# Altium integrated library TI Amplifiers and Linear Special Function Amplifier.IntLib: 708 symbols (part 2 of 47)
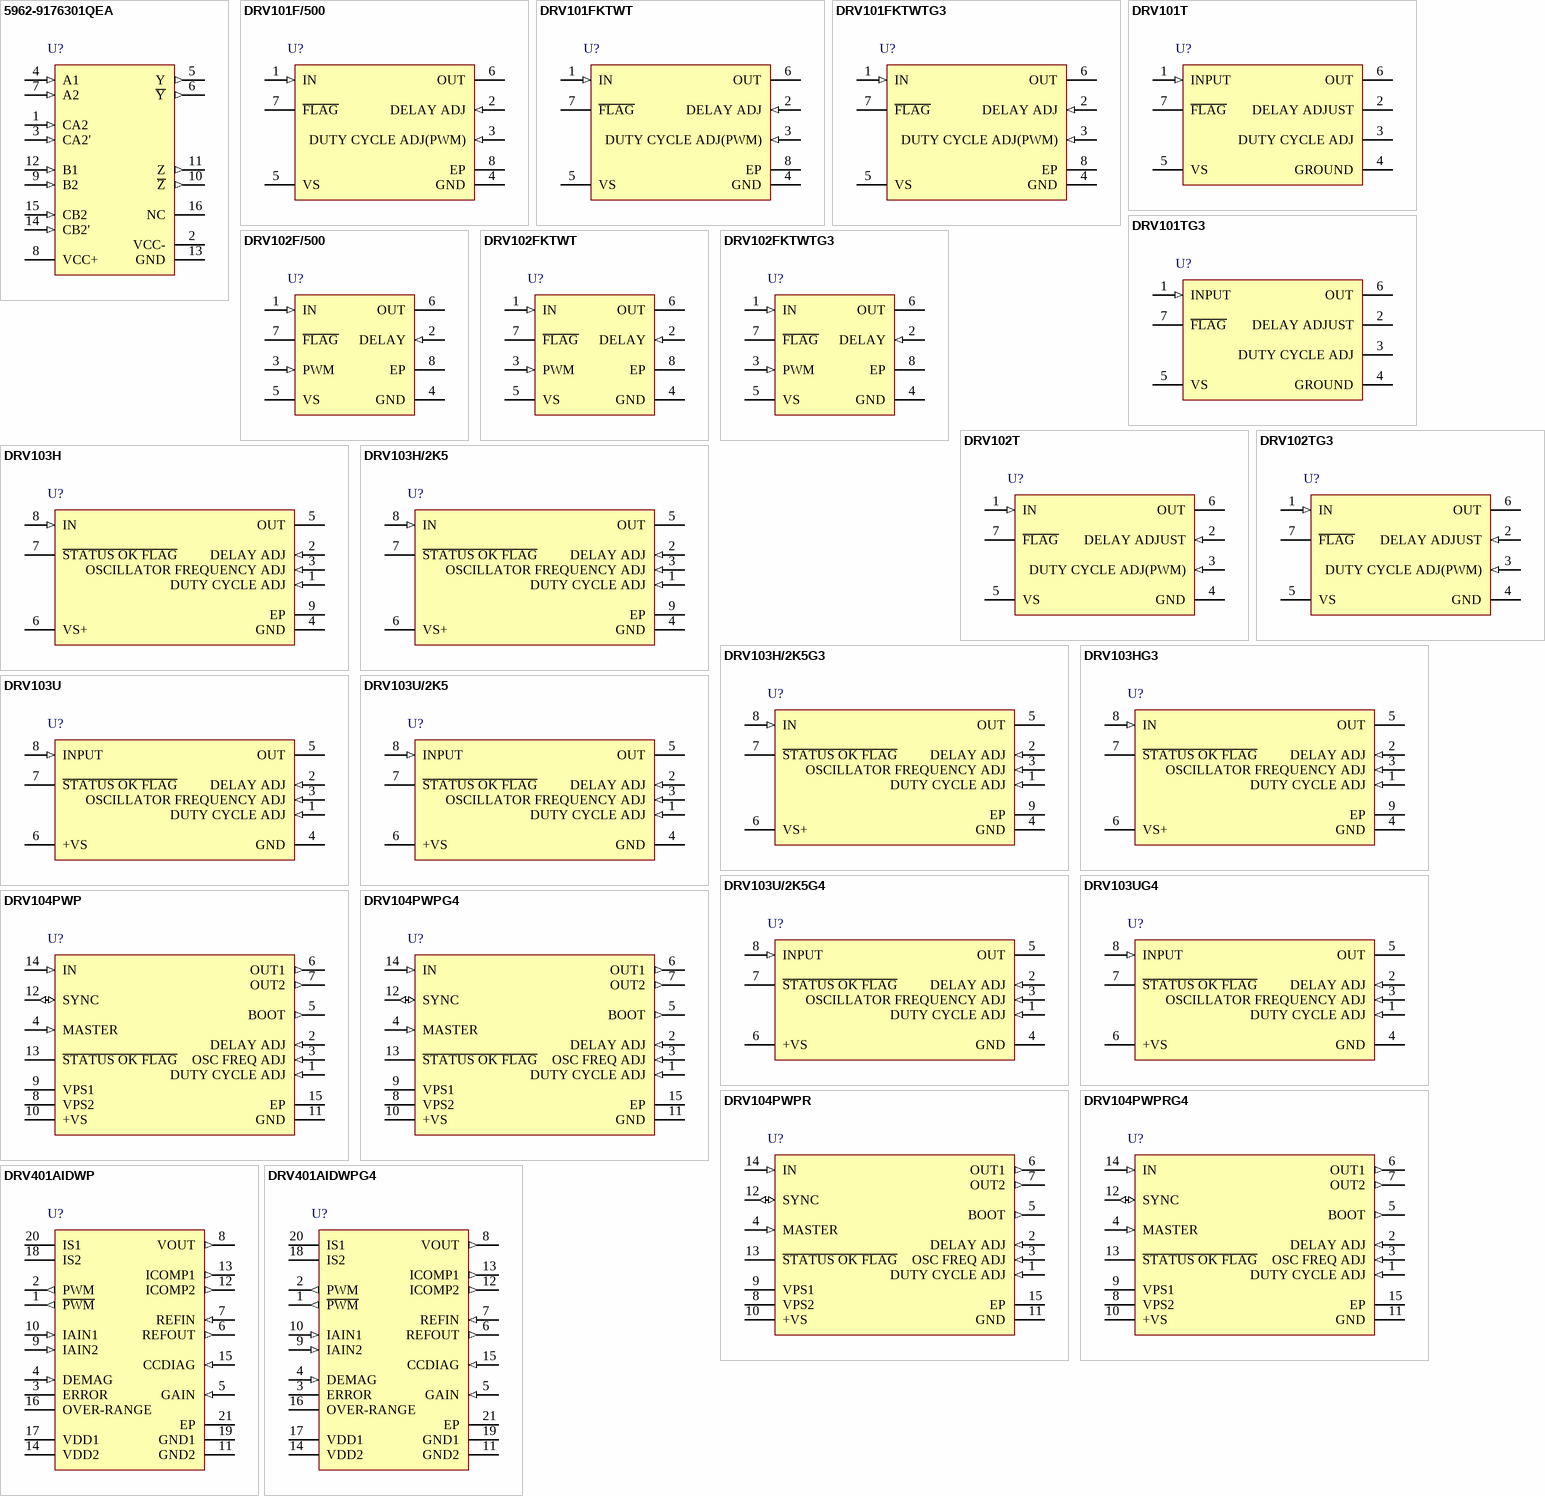
[diagram p40: symbols 5962-9176301QEA to DRV401AIDWPG4]

## DRV103U/2K5
designator U?
PWM Low Side Driver (1.5 A) for Solenoids, Coils, Valves, Heaters, and Lamps, -40 to 85 degC, 8-pin SOIC (D8), Green (RoHS & no Sb/Br); Manufacturer: Texas Instruments; PartNumber: DRV103U/2K5; Iq(mA): 0.4; Iq(Max)(mA): 0.8; Low Side: TRUE; Saturation Voltage(Max)(V): 0.6; Vs(Max)(V): 32; Vs(Min)(V): 8; DatasheetVersion: SBVS029A; PackageVersion: 4040047-3/M, 06/2011; PackageReference: D8; PackageDescription: 8-Pin Plastic Small Outline, Body 4.9 x 3.9 mm, Pitch 1.27 mm; Supplier 1: Digi-Key; Supplier Part Number 1: DRV103U/2K5-ND; Supplier 2: Mouser; Supplier Part Number 2: 595-DRV103U/2K5; Eco-Plan: Green (RoHS & no Sb/Br); Mounting Technology: Surface Mount; Code_JEDEC: MS-012; ComponentLink1Description: Manufacturer URL; ComponentLink1URL: http://www.ti.com/; ComponentLink2Description: Datasheet; ComponentLink2URL: http://www.ti.com/general/docs/lit/getliterature.tsp?genericPartNumber=DRV103&fileType=pdf; ComponentLink3Description: Package Specification; ComponentLink3URL: http://www.ti.com/litv/pdf/msoi002j
footprint TI-D8_N (SOIC, 8-Leads, Body 5x4mm, Pitch 1.27mm, IPC Medium Density)
footprint TI-D8_L (SOIC, 8-Leads, Body 5x4mm, Pitch 1.27mm, IPC High Density)
footprint TI-D8_M (SOIC, 8-Leads, Body 5x4mm, Pitch 1.27mm, IPC Low Density)
pins: 1 DUTY CYCLE ADJ (in) "Internally, this pin connects to the input of a comparator and a (2.75 x IREF) current source from VS. The voltage at this node linearly sets the duty cycle. Duty cycle can be programmed with a resistor, analog voltage, or (See Datasheet)", 2 DELAY ADJ (in) "This pin sets the duration of the initial 100% duty cycle before the output goes into PWM mode. Leaving this pin floating results in a delay of approximately 18us, which is internally limited by parasitic capacitance. (See Datasheet)", 3 OSCILLATOR FREQUENCY ADJ (in) "PWM frequency is adjustable. A resistor to ground sets the current IREF and the internal PWM oscillator frequency. A range of 500Hz to 100kHz can be achieved with practical resistor values. Although oscillator frequency (See Datasheet)", 4 GND (power) "This pin must be connected to system ground for the DRV103 to function. It carries the 0.4mA quiescent current plus the full load current when the power DMOS transistor is switched on.", 5 OUT (oc) "The output is the drain of a power DMOS transistor with its source connected to ground. Its low on-resistance (0.5ohm typ) assures low power dissipation in the DRV103. Gate drive to the power device is controlled to provide (See Datasheet)", 6 +VS (power) "This is the power supply pin. Operating range is +8V to +32V. +VS must be >= the supply voltage to the load.", 7 ~{STATUS OK FLAG} (oc) "Normally HIGH (active LOW), a Flag LOW signals either an over-temperature or over-current fault. The over-current flag (Status OK) is LOW only when the output is ON (constant DC output or the “ON” portion of PWM mode)(See Datasheet)", 8 INPUT (in) "The input is compatible with standard TTL levels. The device output becomes enabled when the input voltage is driven above the typical switching threshold, 1.7V. Below this level, the output is disabled. Input current is (See Datasheet)"

## DRV103U/2K5G4
designator U?
PWM Low Side Driver (1.5 A) for Solenoids, Coils, Valves, Heaters, and Lamps, -40 to 85 degC, 8-pin SOIC (D8), Green (RoHS & no Sb/Br); Manufacturer: Texas Instruments; PartNumber: DRV103U/2K5G4; Iq(mA): 0.4; Iq(Max)(mA): 0.8; Low Side: TRUE; Saturation Voltage(Max)(V): 0.6; Vs(Max)(V): 32; Vs(Min)(V): 8; DatasheetVersion: SBVS029A; PackageVersion: 4040047-3/M, 06/2011; PackageReference: D8; PackageDescription: 8-Pin Plastic Small Outline, Body 4.9 x 3.9 mm, Pitch 1.27 mm; Supplier 1: Digi-Key; Supplier Part Number 1: DRV103U/2K5G4-ND; Supplier 2: Mouser; Supplier Part Number 2: 595-DRV103U/2K5G4; Eco-Plan: Green (RoHS & no Sb/Br); Mounting Technology: Surface Mount; Code_JEDEC: MS-012; ComponentLink1Description: Manufacturer URL; ComponentLink1URL: http://www.ti.com/; ComponentLink2Description: Datasheet; ComponentLink2URL: http://www.ti.com/general/docs/lit/getliterature.tsp?genericPartNumber=DRV103&fileType=pdf; ComponentLink3Description: Package Specification; ComponentLink3URL: http://www.ti.com/litv/pdf/msoi002j
footprint TI-D8_N (SOIC, 8-Leads, Body 5x4mm, Pitch 1.27mm, IPC Medium Density)
footprint TI-D8_L (SOIC, 8-Leads, Body 5x4mm, Pitch 1.27mm, IPC High Density)
footprint TI-D8_M (SOIC, 8-Leads, Body 5x4mm, Pitch 1.27mm, IPC Low Density)
pins: 1 DUTY CYCLE ADJ (in) "Internally, this pin connects to the input of a comparator and a (2.75 x IREF) current source from VS. The voltage at this node linearly sets the duty cycle. Duty cycle can be programmed with a resistor, analog voltage, or (See Datasheet)", 2 DELAY ADJ (in) "This pin sets the duration of the initial 100% duty cycle before the output goes into PWM mode. Leaving this pin floating results in a delay of approximately 18us, which is internally limited by parasitic capacitance. (See Datasheet)", 3 OSCILLATOR FREQUENCY ADJ (in) "PWM frequency is adjustable. A resistor to ground sets the current IREF and the internal PWM oscillator frequency. A range of 500Hz to 100kHz can be achieved with practical resistor values. Although oscillator frequency (See Datasheet)", 4 GND (power) "This pin must be connected to system ground for the DRV103 to function. It carries the 0.4mA quiescent current plus the full load current when the power DMOS transistor is switched on.", 5 OUT (oc) "The output is the drain of a power DMOS transistor with its source connected to ground. Its low on-resistance (0.5ohm typ) assures low power dissipation in the DRV103. Gate drive to the power device is controlled to provide (See Datasheet)", 6 +VS (power) "This is the power supply pin. Operating range is +8V to +32V. +VS must be >= the supply voltage to the load.", 7 ~{STATUS OK FLAG} (oc) "Normally HIGH (active LOW), a Flag LOW signals either an over-temperature or over-current fault. The over-current flag (Status OK) is LOW only when the output is ON (constant DC output or the “ON” portion of PWM mode)(See Datasheet)", 8 INPUT (in) "The input is compatible with standard TTL levels. The device output becomes enabled when the input voltage is driven above the typical switching threshold, 1.7V. Below this level, the output is disabled. Input current is (See Datasheet)"

## DRV103UG4
designator U?
PWM Low Side Driver (1.5 A) for Solenoids, Coils, Valves, Heaters, and Lamps, -40 to 85 degC, 8-pin SOIC (D8), Green (RoHS & no Sb/Br); Manufacturer: Texas Instruments; PartNumber: DRV103UG4; Iq(mA): 0.4; Iq(Max)(mA): 0.8; Low Side: TRUE; Saturation Voltage(Max)(V): 0.6; Vs(Max)(V): 32; Vs(Min)(V): 8; DatasheetVersion: SBVS029A; PackageVersion: 4040047-3/M, 06/2011; PackageReference: D8; PackageDescription: 8-Pin Plastic Small Outline, Body 4.9 x 3.9 mm, Pitch 1.27 mm; Supplier 1: Digi-Key; Supplier Part Number 1: DRV103UG4-ND; Supplier 2: Farnell; Supplier Part Number 2: 1206892; Supplier 3: Newark; Supplier Part Number 3: 96K8702; Supplier 4: Mouser; Supplier Part Number 4: 595-DRV103UG4; Eco-Plan: Green (RoHS & no Sb/Br); Mounting Technology: Surface Mount; Code_JEDEC: MS-012; ComponentLink1Description: Manufacturer URL; ComponentLink1URL: http://www.ti.com/; ComponentLink2Description: Datasheet; ComponentLink2URL: http://www.ti.com/general/docs/lit/getliterature.tsp?genericPartNumber=DRV103&fileType=pdf; ComponentLink3Description: Package Specification; ComponentLink3URL: http://www.ti.com/litv/pdf/msoi002j
footprint TI-D8_N (SOIC, 8-Leads, Body 5x4mm, Pitch 1.27mm, IPC Medium Density)
footprint TI-D8_L (SOIC, 8-Leads, Body 5x4mm, Pitch 1.27mm, IPC High Density)
footprint TI-D8_M (SOIC, 8-Leads, Body 5x4mm, Pitch 1.27mm, IPC Low Density)
pins: 1 DUTY CYCLE ADJ (in) "Internally, this pin connects to the input of a comparator and a (2.75 x IREF) current source from VS. The voltage at this node linearly sets the duty cycle. Duty cycle can be programmed with a resistor, analog voltage, or (See Datasheet)", 2 DELAY ADJ (in) "This pin sets the duration of the initial 100% duty cycle before the output goes into PWM mode. Leaving this pin floating results in a delay of approximately 18us, which is internally limited by parasitic capacitance. (See Datasheet)", 3 OSCILLATOR FREQUENCY ADJ (in) "PWM frequency is adjustable. A resistor to ground sets the current IREF and the internal PWM oscillator frequency. A range of 500Hz to 100kHz can be achieved with practical resistor values. Although oscillator frequency (See Datasheet)", 4 GND (power) "This pin must be connected to system ground for the DRV103 to function. It carries the 0.4mA quiescent current plus the full load current when the power DMOS transistor is switched on.", 5 OUT (oc) "The output is the drain of a power DMOS transistor with its source connected to ground. Its low on-resistance (0.5ohm typ) assures low power dissipation in the DRV103. Gate drive to the power device is controlled to provide (See Datasheet)", 6 +VS (power) "This is the power supply pin. Operating range is +8V to +32V. +VS must be >= the supply voltage to the load.", 7 ~{STATUS OK FLAG} (oc) "Normally HIGH (active LOW), a Flag LOW signals either an over-temperature or over-current fault. The over-current flag (Status OK) is LOW only when the output is ON (constant DC output or the “ON” portion of PWM mode)(See Datasheet)", 8 INPUT (in) "The input is compatible with standard TTL levels. The device output becomes enabled when the input voltage is driven above the typical switching threshold, 1.7V. Below this level, the output is disabled. Input current is (See Datasheet)"

## DRV104PWP
designator U?
PWM High-Side Driver (1.2 A) for Solenoids, Coils, Valves, Heaters, and Lamps, -40 to 85 degC, 14-pin SOP (PWP14), Green (RoHS & no Sb/Br); Manufacturer: Texas Instruments; PartNumber: DRV104PWP; Iq(Max)(mA): 1; Output Current(Min)(A): 1.2; Saturation Voltage(Max)(V): 0.65; Vs(Max)(V): 32; Vs(Min)(V): 8; DatasheetVersion: SBVS036B; PackageVersion: 4073225-2/I, 05/2011; PackageReference: PWP14-1830X2055TP; PackageDescription: 14-Pin Plastic Small Outline, Body 4.4 x 5 mm, Pitch 0.65 mm; Supplier 1: Digi-Key; Supplier Part Number 1: 296-26053-5-ND; Supplier 2: Newark; Supplier Part Number 2: 01J0534; Supplier 3: Mouser; Supplier Part Number 3: 595-DRV104PWP; Eco-Plan: Green (RoHS & no Sb/Br); Mounting Technology: Surface Mount; Code_JEDEC: MO-153; ComponentLink1Description: Manufacturer URL; ComponentLink1URL: http://www.ti.com/; ComponentLink2Description: Datasheet; ComponentLink2URL: http://www.ti.com/general/docs/lit/getliterature.tsp?genericPartNumber=DRV104&fileType=pdf; ComponentLink3Description: Package Specification; ComponentLink3URL: http://www.ti.com/litv/pdf/mpds373
footprint TI-PWP14-1830X2055TP_N (SOP, 14-Leads, Body 5.1x4.5mm, Pitch 0.65mm, Thermal Pad 2.46x2.31mm, IPC Medium Density)
footprint TI-PWP14-1830X2055TP_L (SOP, 14-Leads, Body 5.1x4.5mm, Pitch 0.65mm, Thermal Pad 2.46x2.31mm, IPC High Density)
footprint TI-PWP14-1830X2055TP_M (SOP, 14-Leads, Body 5.1x4.5mm, Pitch 0.65mm, Thermal Pad 2.46x2.31mm, IPC Low Density)
pins: 1 DUTY CYCLE ADJ (in) "Internally, this pin connects to the input of a comparator and a (2.75 x IREF) current source from VS. The voltage at this node linearly sets the duty cycle. The duty cycle can be programmed with a resistor, analog voltage, (See Datasheet)", 2 DELAY ADJ (in) "This pin sets the duration of the initial 100% duty cycle before the output goes into PWM mode. Leaving this pin floating results in a delay of approximately 18us, which is internally limited by parasitic capacitance. (See Datasheet)", 3 OSC FREQ ADJ (in) "PWM frequency is adjustable. A resistor to ground sets the current IREF and the internal PWM oscillator frequency. A range of 500Hz Frequency Adjust to 100kHz can be achieved with practical resistor values. Although (See Datasheet)", 4 MASTER (in) "With no connection, this pin is driven to 5V by an internal 15uA current source. In this mode the device is the master and the SYNC pin becomes a 0V to 4.2V output, which is High when the power device is on. When the (See Datasheet)", 5 BOOT (out) "The bootstrap capacitor between this pin and the output, supplies the charge to provide the VGS necessary to turn on the power device. CBOOT should be larger than 100pF. Use of a smaller CBOOT may slow the output rise time, (See Datasheet)", 6 OUT1 (out) "The output is the source of a power DMOS transistor with its drain connected to VPS. Its low on-resistance (0.45ohm typ) assures low power dissipation in the DRV104. Gate drive to the power device is controlled to provide a (See Datasheet)", 7 OUT2 (out) "The output is the source of a power DMOS transistor with its drain connected to VPS. Its low on-resistance (0.45ohm typ) assures low power dissipation in the DRV104. Gate drive to the power device is controlled to provide a (See Datasheet)", 8 VPS2 (power) "These are the load power-supply pins to the drain of the power device. The load supply voltage may exceed the voltage at pin 10 by 5V, but must not exceed 37V.", 9 VPS1 (power) "These are the load power-supply pins to the drain of the power device. The load supply voltage may exceed the voltage at pin 10 by 5V, but must not exceed 37V.", 10 +VS (power) "This is the power-supply connection for all but the drain of the power device. The operating range is 8V to 32V.", 11 GND (power) "This pin must be connected to the system ground for the DRV104 to function. It does not carry the load current when the power DMOS device is switched on.", 12 SYNC (io) "The SYNC pin is a 0V to 4.2V copy of the output when the Master/Slave pin is High. As an output, it can supply 100uA with 1kohm output resistance. At 2mA, it current limits to either 4.2V or 0V. When the Master pin is Low, (See Datasheet)", 13 ~{STATUS OK FLAG} (oc) "Normally High (active Low), a Flag Low signals either an over-temperature or over-current fault. A thermal fault (thermal shutdown) occurs when the die surface reaches approximately 160degreesC and latches until the die (See Datasheet)", 14 IN (in) "The input is compatible with standard TTL levels. The device becomes enabled when the input voltage is driven above the typical switching threshold, 1.8V; below this level, the device is disabled. Input current is typically (See Datasheet)", 15 EP "Exposed Pad"

## DRV104PWPG4
designator U?
PWM High-Side Driver (1.2 A) for Solenoids, Coils, Valves, Heaters, and Lamps, -40 to 85 degC, 14-pin SOP (PWP14), Green (RoHS & no Sb/Br); Manufacturer: Texas Instruments; PartNumber: DRV104PWPG4; Iq(Max)(mA): 1; Output Current(Min)(A): 1.2; Saturation Voltage(Max)(V): 0.65; Vs(Max)(V): 32; Vs(Min)(V): 8; DatasheetVersion: SBVS036B; PackageVersion: 4073225-2/I, 05/2011; PackageReference: PWP14-1830X2055TP; PackageDescription: 14-Pin Plastic Small Outline, Body 4.4 x 5 mm, Pitch 0.65 mm; Supplier 1: Digi-Key; Supplier Part Number 1: DRV104PWPG4-ND; Supplier 2: Newark; Supplier Part Number 2: 28M5383; Supplier 3: Mouser; Supplier Part Number 3: 595-DRV104PWPG4; Eco-Plan: Green (RoHS & no Sb/Br); Mounting Technology: Surface Mount; Code_JEDEC: MO-153; ComponentLink1Description: Manufacturer URL; ComponentLink1URL: http://www.ti.com/; ComponentLink2Description: Datasheet; ComponentLink2URL: http://www.ti.com/general/docs/lit/getliterature.tsp?genericPartNumber=DRV104&fileType=pdf; ComponentLink3Description: Package Specification; ComponentLink3URL: http://www.ti.com/litv/pdf/mpds373
footprint TI-PWP14-1830X2055TP_N (SOP, 14-Leads, Body 5.1x4.5mm, Pitch 0.65mm, Thermal Pad 2.46x2.31mm, IPC Medium Density)
footprint TI-PWP14-1830X2055TP_L (SOP, 14-Leads, Body 5.1x4.5mm, Pitch 0.65mm, Thermal Pad 2.46x2.31mm, IPC High Density)
footprint TI-PWP14-1830X2055TP_M (SOP, 14-Leads, Body 5.1x4.5mm, Pitch 0.65mm, Thermal Pad 2.46x2.31mm, IPC Low Density)
pins: 1 DUTY CYCLE ADJ (in) "Internally, this pin connects to the input of a comparator and a (2.75 x IREF) current source from VS. The voltage at this node linearly sets the duty cycle. The duty cycle can be programmed with a resistor, analog voltage, (See Datasheet)", 2 DELAY ADJ (in) "This pin sets the duration of the initial 100% duty cycle before the output goes into PWM mode. Leaving this pin floating results in a delay of approximately 18us, which is internally limited by parasitic capacitance. (See Datasheet)", 3 OSC FREQ ADJ (in) "PWM frequency is adjustable. A resistor to ground sets the current IREF and the internal PWM oscillator frequency. A range of 500Hz Frequency Adjust to 100kHz can be achieved with practical resistor values. Although (See Datasheet)", 4 MASTER (in) "With no connection, this pin is driven to 5V by an internal 15uA current source. In this mode the device is the master and the SYNC pin becomes a 0V to 4.2V output, which is High when the power device is on. When the (See Datasheet)", 5 BOOT (out) "The bootstrap capacitor between this pin and the output, supplies the charge to provide the VGS necessary to turn on the power device. CBOOT should be larger than 100pF. Use of a smaller CBOOT may slow the output rise time, (See Datasheet)", 6 OUT1 (out) "The output is the source of a power DMOS transistor with its drain connected to VPS. Its low on-resistance (0.45ohm typ) assures low power dissipation in the DRV104. Gate drive to the power device is controlled to provide a (See Datasheet)", 7 OUT2 (out) "The output is the source of a power DMOS transistor with its drain connected to VPS. Its low on-resistance (0.45ohm typ) assures low power dissipation in the DRV104. Gate drive to the power device is controlled to provide a (See Datasheet)", 8 VPS2 (power) "These are the load power-supply pins to the drain of the power device. The load supply voltage may exceed the voltage at pin 10 by 5V, but must not exceed 37V.", 9 VPS1 (power) "These are the load power-supply pins to the drain of the power device. The load supply voltage may exceed the voltage at pin 10 by 5V, but must not exceed 37V.", 10 +VS (power) "This is the power-supply connection for all but the drain of the power device. The operating range is 8V to 32V.", 11 GND (power) "This pin must be connected to the system ground for the DRV104 to function. It does not carry the load current when the power DMOS device is switched on.", 12 SYNC (io) "The SYNC pin is a 0V to 4.2V copy of the output when the Master/Slave pin is High. As an output, it can supply 100uA with 1kohm output resistance. At 2mA, it current limits to either 4.2V or 0V. When the Master pin is Low, (See Datasheet)", 13 ~{STATUS OK FLAG} (oc) "Normally High (active Low), a Flag Low signals either an over-temperature or over-current fault. A thermal fault (thermal shutdown) occurs when the die surface reaches approximately 160degreesC and latches until the die (See Datasheet)", 14 IN (in) "The input is compatible with standard TTL levels. The device becomes enabled when the input voltage is driven above the typical switching threshold, 1.8V; below this level, the device is disabled. Input current is typically (See Datasheet)", 15 EP "Exposed Pad"

## DRV104PWPR
designator U?
PWM High-Side Driver (1.2 A) for Solenoids, Coils, Valves, Heaters, and Lamps, -40 to 85 degC, 14-pin SOP (PWP14), Green (RoHS & no Sb/Br); Manufacturer: Texas Instruments; PartNumber: DRV104PWPR; Iq(Max)(mA): 1; Output Current(Min)(A): 1.2; Saturation Voltage(Max)(V): 0.65; Vs(Max)(V): 32; Vs(Min)(V): 8; DatasheetVersion: SBVS036B; PackageVersion: 4073225-2/I, 05/2011; PackageReference: PWP14-1830X2055TP; PackageDescription: 14-Pin Plastic Small Outline, Body 4.4 x 5 mm, Pitch 0.65 mm; Supplier 1: Digi-Key; Supplier Part Number 1: 296-15746-2-ND; Supplier 2: Digi-Key; Supplier Part Number 2: 296-15746-1-ND; Supplier 3: Digi-Key; Supplier Part Number 3: 296-15746-6-ND; Supplier 4: Farnell; Supplier Part Number 4: 1703282RL; Supplier 5: Farnell; Supplier Part Number 5: 1703282; Supplier 6: Newark; Supplier Part Number 6: 87H0876; Supplier 7: Newark; Supplier Part Number 7: 28X3373; Supplier 8: Mouser; Supplier Part Number 8: 595-DRV104PWPR; Eco-Plan: Green (RoHS & no Sb/Br); Mounting Technology: Surface Mount; Code_JEDEC: MO-153; ComponentLink1Description: Manufacturer URL; ComponentLink1URL: http://www.ti.com/; ComponentLink2Description: Datasheet; ComponentLink2URL: http://www.ti.com/general/docs/lit/getliterature.tsp?genericPartNumber=DRV104&fileType=pdf; ComponentLink3Description: Package Specification; ComponentLink3URL: http://www.ti.com/litv/pdf/mpds373
footprint TI-PWP14-1830X2055TP_N (SOP, 14-Leads, Body 5.1x4.5mm, Pitch 0.65mm, Thermal Pad 2.46x2.31mm, IPC Medium Density)
footprint TI-PWP14-1830X2055TP_L (SOP, 14-Leads, Body 5.1x4.5mm, Pitch 0.65mm, Thermal Pad 2.46x2.31mm, IPC High Density)
footprint TI-PWP14-1830X2055TP_M (SOP, 14-Leads, Body 5.1x4.5mm, Pitch 0.65mm, Thermal Pad 2.46x2.31mm, IPC Low Density)
pins: 1 DUTY CYCLE ADJ (in) "Internally, this pin connects to the input of a comparator and a (2.75 x IREF) current source from VS. The voltage at this node linearly sets the duty cycle. The duty cycle can be programmed with a resistor, analog voltage, (See Datasheet)", 2 DELAY ADJ (in) "This pin sets the duration of the initial 100% duty cycle before the output goes into PWM mode. Leaving this pin floating results in a delay of approximately 18us, which is internally limited by parasitic capacitance. (See Datasheet)", 3 OSC FREQ ADJ (in) "PWM frequency is adjustable. A resistor to ground sets the current IREF and the internal PWM oscillator frequency. A range of 500Hz Frequency Adjust to 100kHz can be achieved with practical resistor values. Although (See Datasheet)", 4 MASTER (in) "With no connection, this pin is driven to 5V by an internal 15uA current source. In this mode the device is the master and the SYNC pin becomes a 0V to 4.2V output, which is High when the power device is on. When the (See Datasheet)", 5 BOOT (out) "The bootstrap capacitor between this pin and the output, supplies the charge to provide the VGS necessary to turn on the power device. CBOOT should be larger than 100pF. Use of a smaller CBOOT may slow the output rise time, (See Datasheet)", 6 OUT1 (out) "The output is the source of a power DMOS transistor with its drain connected to VPS. Its low on-resistance (0.45ohm typ) assures low power dissipation in the DRV104. Gate drive to the power device is controlled to provide a (See Datasheet)", 7 OUT2 (out) "The output is the source of a power DMOS transistor with its drain connected to VPS. Its low on-resistance (0.45ohm typ) assures low power dissipation in the DRV104. Gate drive to the power device is controlled to provide a (See Datasheet)", 8 VPS2 (power) "These are the load power-supply pins to the drain of the power device. The load supply voltage may exceed the voltage at pin 10 by 5V, but must not exceed 37V.", 9 VPS1 (power) "These are the load power-supply pins to the drain of the power device. The load supply voltage may exceed the voltage at pin 10 by 5V, but must not exceed 37V.", 10 +VS (power) "This is the power-supply connection for all but the drain of the power device. The operating range is 8V to 32V.", 11 GND (power) "This pin must be connected to the system ground for the DRV104 to function. It does not carry the load current when the power DMOS device is switched on.", 12 SYNC (io) "The SYNC pin is a 0V to 4.2V copy of the output when the Master/Slave pin is High. As an output, it can supply 100uA with 1kohm output resistance. At 2mA, it current limits to either 4.2V or 0V. When the Master pin is Low, (See Datasheet)", 13 ~{STATUS OK FLAG} (oc) "Normally High (active Low), a Flag Low signals either an over-temperature or over-current fault. A thermal fault (thermal shutdown) occurs when the die surface reaches approximately 160degreesC and latches until the die (See Datasheet)", 14 IN (in) "The input is compatible with standard TTL levels. The device becomes enabled when the input voltage is driven above the typical switching threshold, 1.8V; below this level, the device is disabled. Input current is typically (See Datasheet)", 15 EP "Exposed Pad"

## DRV104PWPRG4
designator U?
PWM High-Side Driver (1.2 A) for Solenoids, Coils, Valves, Heaters, and Lamps, -40 to 85 degC, 14-pin SOP (PWP14), Green (RoHS & no Sb/Br); Manufacturer: Texas Instruments; PartNumber: DRV104PWPRG4; Iq(Max)(mA): 1; Output Current(Min)(A): 1.2; Saturation Voltage(Max)(V): 0.65; Vs(Max)(V): 32; Vs(Min)(V): 8; DatasheetVersion: SBVS036B; PackageVersion: 4073225-2/I, 05/2011; PackageReference: PWP14-1830X2055TP; PackageDescription: 14-Pin Plastic Small Outline, Body 4.4 x 5 mm, Pitch 0.65 mm; Supplier 1: Digi-Key; Supplier Part Number 1: DRV104PWPRG4-ND; Supplier 2: Newark; Supplier Part Number 2: 85K0627; Supplier 3: Mouser; Supplier Part Number 3: 595-DRV104PWPRG4; Eco-Plan: Green (RoHS & no Sb/Br); Mounting Technology: Surface Mount; Code_JEDEC: MO-153; ComponentLink1Description: Manufacturer URL; ComponentLink1URL: http://www.ti.com/; ComponentLink2Description: Datasheet; ComponentLink2URL: http://www.ti.com/general/docs/lit/getliterature.tsp?genericPartNumber=DRV104&fileType=pdf; ComponentLink3Description: Package Specification; ComponentLink3URL: http://www.ti.com/litv/pdf/mpds373
footprint TI-PWP14-1830X2055TP_N (SOP, 14-Leads, Body 5.1x4.5mm, Pitch 0.65mm, Thermal Pad 2.46x2.31mm, IPC Medium Density)
footprint TI-PWP14-1830X2055TP_L (SOP, 14-Leads, Body 5.1x4.5mm, Pitch 0.65mm, Thermal Pad 2.46x2.31mm, IPC High Density)
footprint TI-PWP14-1830X2055TP_M (SOP, 14-Leads, Body 5.1x4.5mm, Pitch 0.65mm, Thermal Pad 2.46x2.31mm, IPC Low Density)
pins: 1 DUTY CYCLE ADJ (in) "Internally, this pin connects to the input of a comparator and a (2.75 x IREF) current source from VS. The voltage at this node linearly sets the duty cycle. The duty cycle can be programmed with a resistor, analog voltage, (See Datasheet)", 2 DELAY ADJ (in) "This pin sets the duration of the initial 100% duty cycle before the output goes into PWM mode. Leaving this pin floating results in a delay of approximately 18us, which is internally limited by parasitic capacitance. (See Datasheet)", 3 OSC FREQ ADJ (in) "PWM frequency is adjustable. A resistor to ground sets the current IREF and the internal PWM oscillator frequency. A range of 500Hz Frequency Adjust to 100kHz can be achieved with practical resistor values. Although (See Datasheet)", 4 MASTER (in) "With no connection, this pin is driven to 5V by an internal 15uA current source. In this mode the device is the master and the SYNC pin becomes a 0V to 4.2V output, which is High when the power device is on. When the (See Datasheet)", 5 BOOT (out) "The bootstrap capacitor between this pin and the output, supplies the charge to provide the VGS necessary to turn on the power device. CBOOT should be larger than 100pF. Use of a smaller CBOOT may slow the output rise time, (See Datasheet)", 6 OUT1 (out) "The output is the source of a power DMOS transistor with its drain connected to VPS. Its low on-resistance (0.45ohm typ) assures low power dissipation in the DRV104. Gate drive to the power device is controlled to provide a (See Datasheet)", 7 OUT2 (out) "The output is the source of a power DMOS transistor with its drain connected to VPS. Its low on-resistance (0.45ohm typ) assures low power dissipation in the DRV104. Gate drive to the power device is controlled to provide a (See Datasheet)", 8 VPS2 (power) "These are the load power-supply pins to the drain of the power device. The load supply voltage may exceed the voltage at pin 10 by 5V, but must not exceed 37V.", 9 VPS1 (power) "These are the load power-supply pins to the drain of the power device. The load supply voltage may exceed the voltage at pin 10 by 5V, but must not exceed 37V.", 10 +VS (power) "This is the power-supply connection for all but the drain of the power device. The operating range is 8V to 32V.", 11 GND (power) "This pin must be connected to the system ground for the DRV104 to function. It does not carry the load current when the power DMOS device is switched on.", 12 SYNC (io) "The SYNC pin is a 0V to 4.2V copy of the output when the Master/Slave pin is High. As an output, it can supply 100uA with 1kohm output resistance. At 2mA, it current limits to either 4.2V or 0V. When the Master pin is Low, (See Datasheet)", 13 ~{STATUS OK FLAG} (oc) "Normally High (active Low), a Flag Low signals either an over-temperature or over-current fault. A thermal fault (thermal shutdown) occurs when the die surface reaches approximately 160degreesC and latches until the die (See Datasheet)", 14 IN (in) "The input is compatible with standard TTL levels. The device becomes enabled when the input voltage is driven above the typical switching threshold, 1.8V; below this level, the device is disabled. Input current is typically (See Datasheet)", 15 EP "Exposed Pad"

## DRV401AIDWP
designator U?
Sensor Signal Conditioning for Closed-Loop Magnetic Current Sensor, -50 to 150 degC, 20-pin SOP (DWP20), Green (RoHS & no Sb/Br); Manufacturer: Texas Instruments; PartNumber: DRV401AIDWP; Iq(Max)(mA): 6.8; Vs(Max)(V): 5.5; Vs(Min)(V): 4.5; DatasheetVersion: SBVS070B; PackageVersion: 4147575/C, 02/2005; PackageReference: DWP20-3730X2350TP; PackageDescription: 20-Pin PowerPAD(TM) Plastic Small-Outline Package, Body 12.825 x 7.52 mm, Pitch 1.27 mm; Supplier 1: Digi-Key; Supplier Part Number 1: 296-33271-5-ND; Supplier 2: Mouser; Supplier Part Number 2: 595-DRV401AIDWP; Eco-Plan: Green (RoHS & no Sb/Br); Thermal Shutdown: No; Mounting Technology: Surface Mount; ComponentLink1Description: Manufacturer URL; ComponentLink1URL: http://www.ti.com/; ComponentLink2Description: Datasheet; ComponentLink2URL: http://www.ti.com/general/docs/lit/getliterature.tsp?genericPartNumber=DRV401&fileType=pdf; ComponentLink3Description: Package Specification; ComponentLink3URL: http://www.ti.com/litv/pdf/mpds032b
footprint TI-DWP20-3730X2350TP_N (SOP, 20-Leads, Body 12.825x7.52mm, Pitch 1.27mm, Thermal Pad 3.47X2.35mm, IPC Medium Density)
footprint TI-DWP20-3730X2350TP_L (SOP, 20-Leads, Body 12.825x7.52mm, Pitch 1.27mm, Thermal Pad 3.47X2.35mm, IPC High Density)
footprint TI-DWP20-3730X2350TP_M (SOP, 20-Leads, Body 12.825x7.52mm, Pitch 1.27mm, Thermal Pad 3.47X2.35mm, IPC Low Density)
pins: 1 ~{PWM} (out) "PWM output from probe circuit (inverted).", 2 PWM (out) "PWM output from probe circuit", 3 ERROR (oc) "Error flag: open-drain output, see the Error Conditions section.", 4 DEMAG (in) "Control input, see the Demagnetization section.", 5 GAIN (in) "Control input for open-loop gain: low = normal, high = -8dB.", 6 REFOUT (out) "Output for internal 2.5V reference voltage.", 7 REFIN (in) "Input for zero reference to differential amplifier.", 8 VOUT (out) "Output for differential amplifier.", 9 IAIN2 (in) "Noninverting input of differential amplifier.", 10 IAIN1 (in) "Inverting input of differential amplifier.", 11 GND2 (power) "Ground connection. Connect to GND1.", 12 ICOMP2 (out) "Output 2 of compensation coil driver.", 13 ICOMP1 (out) "Output 1 of compensation coil driver.", 14 VDD2 (power) "Supply voltage. Connect to VDD1.", 15 CCDIAG (in) "Control input for wire-break detection: high = enable.", 16 OVER-RANGE (oc) "Open-drain output for over-range indication: low = over-range.", 17 VDD1 (power) "Supply voltage.", 18 IS2 "Probe connection 2.", 19 GND1 (power) "Ground connection.", 20 IS1 "Probe connection 1.", 21 EP (power) "Connect to GND1."

## DRV401AIDWPG4
designator U?
Sensor Signal Conditioning for Closed-Loop Magnetic Current Sensor, -50 to 150 degC, 20-pin SOP (DWP20), Green (RoHS & no Sb/Br); Manufacturer: Texas Instruments; PartNumber: DRV401AIDWPG4; Iq(Max)(mA): 6.8; Vs(Max)(V): 5.5; Vs(Min)(V): 4.5; DatasheetVersion: SBVS070B; PackageVersion: 4147575/C, 02/2005; PackageReference: DWP20-3730X2350TP; PackageDescription: 20-Pin PowerPAD(TM) Plastic Small-Outline Package, Body 12.825 x 7.52 mm, Pitch 1.27 mm; Supplier 1: Digi-Key; Supplier Part Number 1: DRV401AIDWPG4-ND; Supplier 2: Farnell; Supplier Part Number 2: 1329585; Supplier 3: Newark; Supplier Part Number 3: 20M5120; Supplier 4: Newark; Supplier Part Number 4: 61M5866; Supplier 5: Mouser; Supplier Part Number 5: 595-DRV401AIDWPG4; Eco-Plan: Green (RoHS & no Sb/Br); Thermal Shutdown: No; Mounting Technology: Surface Mount; ComponentLink1Description: Manufacturer URL; ComponentLink1URL: http://www.ti.com/; ComponentLink2Description: Datasheet; ComponentLink2URL: http://www.ti.com/general/docs/lit/getliterature.tsp?genericPartNumber=DRV401&fileType=pdf; ComponentLink3Description: Package Specification; ComponentLink3URL: http://www.ti.com/litv/pdf/mpds032b
footprint TI-DWP20-3730X2350TP_N (SOP, 20-Leads, Body 12.825x7.52mm, Pitch 1.27mm, Thermal Pad 3.47X2.35mm, IPC Medium Density)
footprint TI-DWP20-3730X2350TP_L (SOP, 20-Leads, Body 12.825x7.52mm, Pitch 1.27mm, Thermal Pad 3.47X2.35mm, IPC High Density)
footprint TI-DWP20-3730X2350TP_M (SOP, 20-Leads, Body 12.825x7.52mm, Pitch 1.27mm, Thermal Pad 3.47X2.35mm, IPC Low Density)
pins: 1 ~{PWM} (out) "PWM output from probe circuit (inverted).", 2 PWM (out) "PWM output from probe circuit", 3 ERROR (oc) "Error flag: open-drain output, see the Error Conditions section.", 4 DEMAG (in) "Control input, see the Demagnetization section.", 5 GAIN (in) "Control input for open-loop gain: low = normal, high = -8dB.", 6 REFOUT (out) "Output for internal 2.5V reference voltage.", 7 REFIN (in) "Input for zero reference to differential amplifier.", 8 VOUT (out) "Output for differential amplifier.", 9 IAIN2 (in) "Noninverting input of differential amplifier.", 10 IAIN1 (in) "Inverting input of differential amplifier.", 11 GND2 (power) "Ground connection. Connect to GND1.", 12 ICOMP2 (out) "Output 2 of compensation coil driver.", 13 ICOMP1 (out) "Output 1 of compensation coil driver.", 14 VDD2 (power) "Supply voltage. Connect to VDD1.", 15 CCDIAG (in) "Control input for wire-break detection: high = enable.", 16 OVER-RANGE (oc) "Open-drain output for over-range indication: low = over-range.", 17 VDD1 (power) "Supply voltage.", 18 IS2 "Probe connection 2.", 19 GND1 (power) "Ground connection.", 20 IS1 "Probe connection 1.", 21 EP (power) "Connect to GND1."

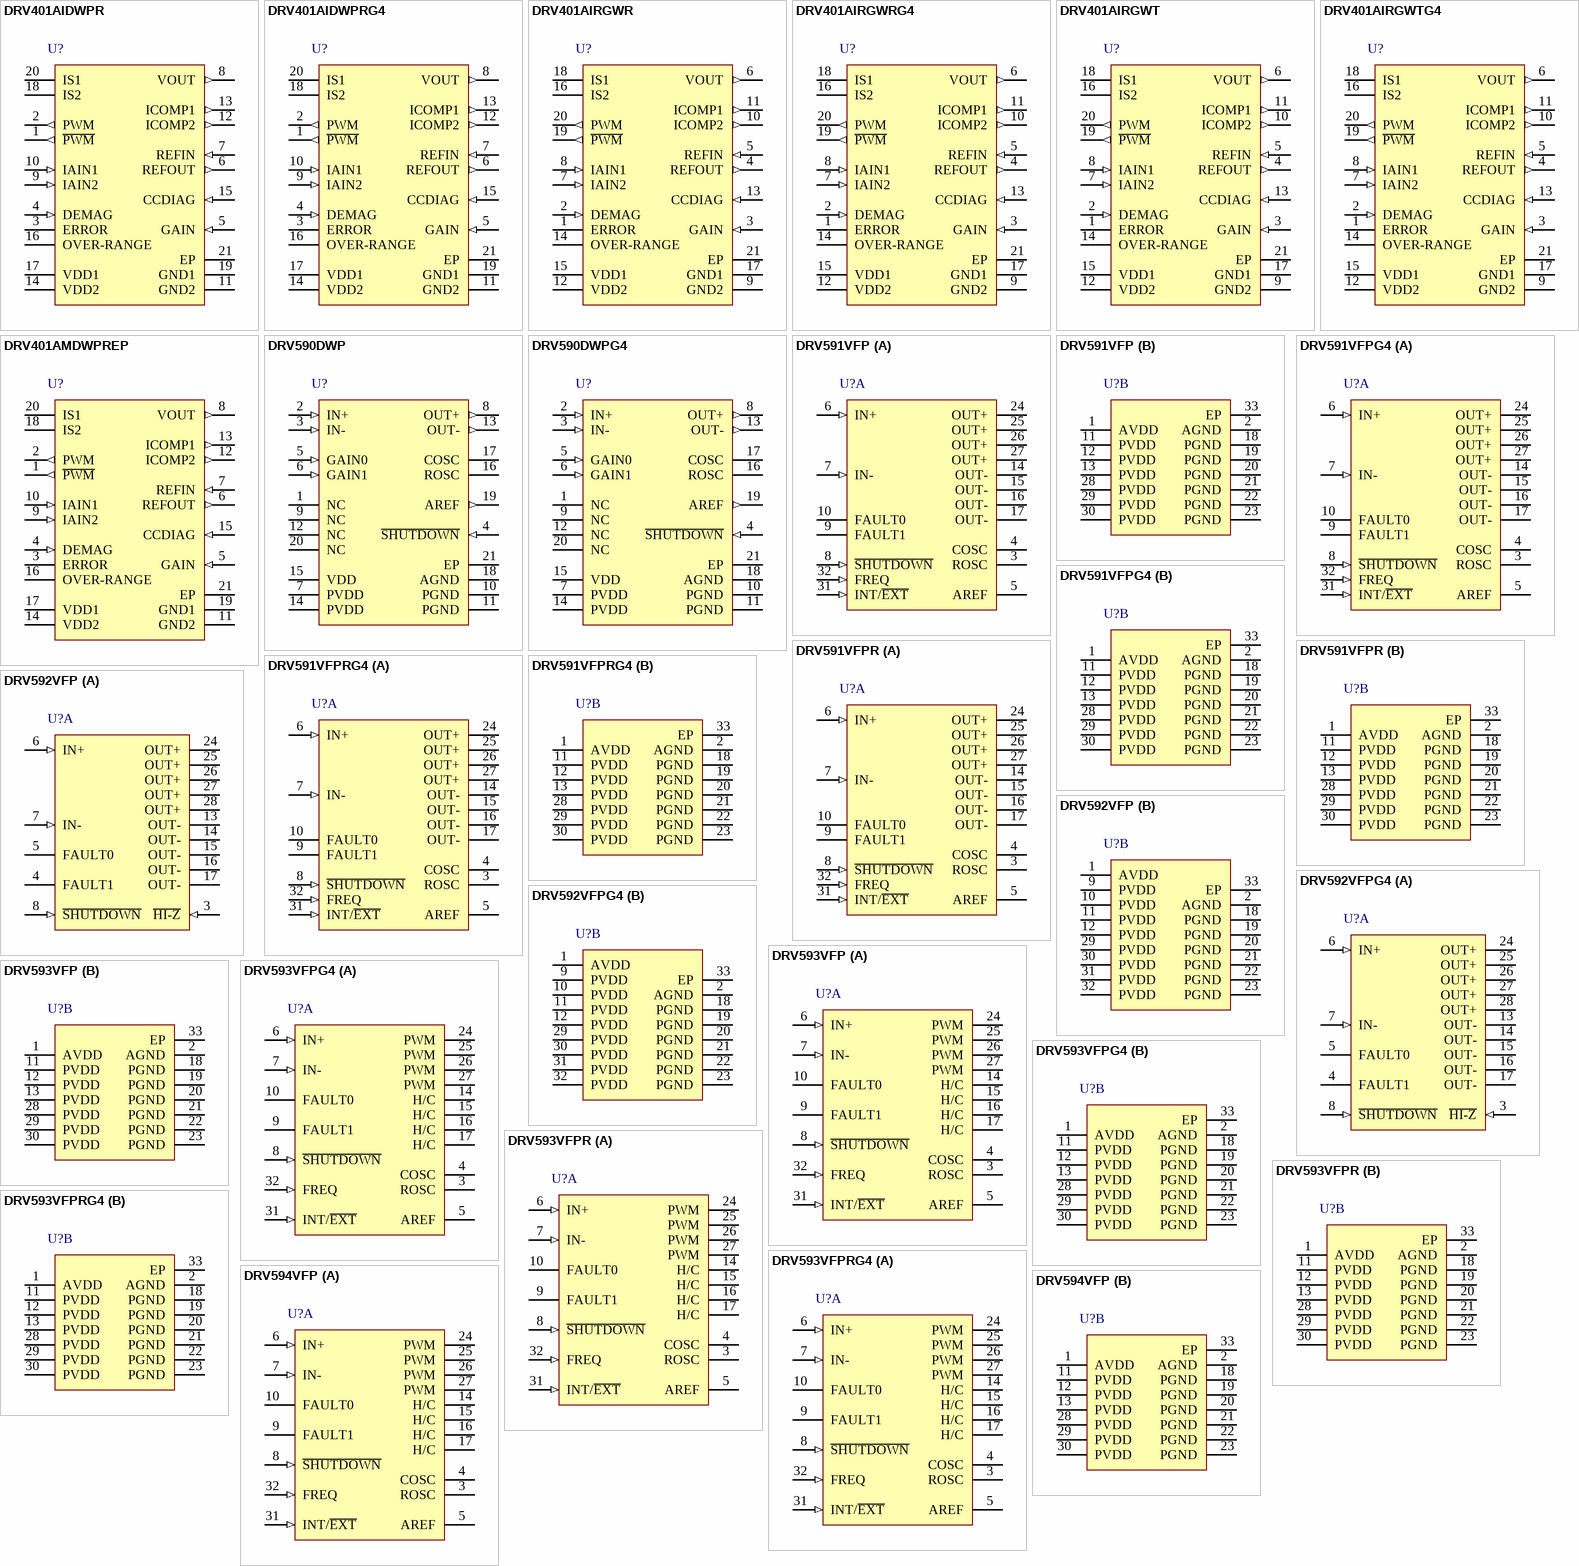
[diagram p1: symbols DRV401AIDWPR to DRV594VFP]

## DRV401AIDWPR
designator U?
Sensor Signal Conditioning for Closed-Loop Magnetic Current Sensor, -50 to 150 degC, 20-pin SOP (DWP20), Green (RoHS & no Sb/Br); Manufacturer: Texas Instruments; PartNumber: DRV401AIDWPR; Iq(Max)(mA): 6.8; Vs(Max)(V): 5.5; Vs(Min)(V): 4.5; DatasheetVersion: SBVS070B; PackageVersion: 4147575/C, 02/2005; PackageReference: DWP20-3730X2350TP; PackageDescription: 20-Pin PowerPAD(TM) Plastic Small-Outline Package, Body 12.825 x 7.52 mm, Pitch 1.27 mm; Supplier 1: Digi-Key; Supplier Part Number 1: 296-21226-2-ND; Supplier 2: Digi-Key; Supplier Part Number 2: 296-21226-1-ND; Supplier 3: Digi-Key; Supplier Part Number 3: 296-21226-6-ND; Supplier 4: Mouser; Supplier Part Number 4: 595-DRV401AIDWPR; Eco-Plan: Green (RoHS & no Sb/Br); Thermal Shutdown: No; Mounting Technology: Surface Mount; ComponentLink1Description: Manufacturer URL; ComponentLink1URL: http://www.ti.com/; ComponentLink2Description: Datasheet; ComponentLink2URL: http://www.ti.com/general/docs/lit/getliterature.tsp?genericPartNumber=DRV401&fileType=pdf; ComponentLink3Description: Package Specification; ComponentLink3URL: http://www.ti.com/litv/pdf/mpds032b
footprint TI-DWP20-3730X2350TP_N (SOP, 20-Leads, Body 12.825x7.52mm, Pitch 1.27mm, Thermal Pad 3.47X2.35mm, IPC Medium Density)
footprint TI-DWP20-3730X2350TP_L (SOP, 20-Leads, Body 12.825x7.52mm, Pitch 1.27mm, Thermal Pad 3.47X2.35mm, IPC High Density)
footprint TI-DWP20-3730X2350TP_M (SOP, 20-Leads, Body 12.825x7.52mm, Pitch 1.27mm, Thermal Pad 3.47X2.35mm, IPC Low Density)
pins: 1 ~{PWM} (out) "PWM output from probe circuit (inverted).", 2 PWM (out) "PWM output from probe circuit", 3 ERROR (oc) "Error flag: open-drain output, see the Error Conditions section.", 4 DEMAG (in) "Control input, see the Demagnetization section.", 5 GAIN (in) "Control input for open-loop gain: low = normal, high = -8dB.", 6 REFOUT (out) "Output for internal 2.5V reference voltage.", 7 REFIN (in) "Input for zero reference to differential amplifier.", 8 VOUT (out) "Output for differential amplifier.", 9 IAIN2 (in) "Noninverting input of differential amplifier.", 10 IAIN1 (in) "Inverting input of differential amplifier.", 11 GND2 (power) "Ground connection. Connect to GND1.", 12 ICOMP2 (out) "Output 2 of compensation coil driver.", 13 ICOMP1 (out) "Output 1 of compensation coil driver.", 14 VDD2 (power) "Supply voltage. Connect to VDD1.", 15 CCDIAG (in) "Control input for wire-break detection: high = enable.", 16 OVER-RANGE (oc) "Open-drain output for over-range indication: low = over-range.", 17 VDD1 (power) "Supply voltage.", 18 IS2 "Probe connection 2.", 19 GND1 (power) "Ground connection.", 20 IS1 "Probe connection 1.", 21 EP (power) "Connect to GND1."

## DRV401AIDWPRG4
designator U?
Sensor Signal Conditioning for Closed-Loop Magnetic Current Sensor, -50 to 150 degC, 20-pin SOP (DWP20), Green (RoHS & no Sb/Br); Manufacturer: Texas Instruments; PartNumber: DRV401AIDWPRG4; Iq(Max)(mA): 6.8; Vs(Max)(V): 5.5; Vs(Min)(V): 4.5; DatasheetVersion: SBVS070B; PackageVersion: 4147575/C, 02/2005; PackageReference: DWP20-3730X2350TP; PackageDescription: 20-Pin PowerPAD(TM) Plastic Small-Outline Package, Body 12.825 x 7.52 mm, Pitch 1.27 mm; Supplier 1: Digi-Key; Supplier Part Number 1: DRV401AIDWPRG4-ND; Supplier 2: Mouser; Supplier Part Number 2: 595-DRV401AIDWPRG4; Eco-Plan: Green (RoHS & no Sb/Br); Thermal Shutdown: No; Mounting Technology: Surface Mount; ComponentLink1Description: Manufacturer URL; ComponentLink1URL: http://www.ti.com/; ComponentLink2Description: Datasheet; ComponentLink2URL: http://www.ti.com/general/docs/lit/getliterature.tsp?genericPartNumber=DRV401&fileType=pdf; ComponentLink3Description: Package Specification; ComponentLink3URL: http://www.ti.com/litv/pdf/mpds032b
footprint TI-DWP20-3730X2350TP_N (SOP, 20-Leads, Body 12.825x7.52mm, Pitch 1.27mm, Thermal Pad 3.47X2.35mm, IPC Medium Density)
footprint TI-DWP20-3730X2350TP_L (SOP, 20-Leads, Body 12.825x7.52mm, Pitch 1.27mm, Thermal Pad 3.47X2.35mm, IPC High Density)
footprint TI-DWP20-3730X2350TP_M (SOP, 20-Leads, Body 12.825x7.52mm, Pitch 1.27mm, Thermal Pad 3.47X2.35mm, IPC Low Density)
pins: 1 ~{PWM} (out) "PWM output from probe circuit (inverted).", 2 PWM (out) "PWM output from probe circuit", 3 ERROR (oc) "Error flag: open-drain output, see the Error Conditions section.", 4 DEMAG (in) "Control input, see the Demagnetization section.", 5 GAIN (in) "Control input for open-loop gain: low = normal, high = -8dB.", 6 REFOUT (out) "Output for internal 2.5V reference voltage.", 7 REFIN (in) "Input for zero reference to differential amplifier.", 8 VOUT (out) "Output for differential amplifier.", 9 IAIN2 (in) "Noninverting input of differential amplifier.", 10 IAIN1 (in) "Inverting input of differential amplifier.", 11 GND2 (power) "Ground connection. Connect to GND1.", 12 ICOMP2 (out) "Output 2 of compensation coil driver.", 13 ICOMP1 (out) "Output 1 of compensation coil driver.", 14 VDD2 (power) "Supply voltage. Connect to VDD1.", 15 CCDIAG (in) "Control input for wire-break detection: high = enable.", 16 OVER-RANGE (oc) "Open-drain output for over-range indication: low = over-range.", 17 VDD1 (power) "Supply voltage.", 18 IS2 "Probe connection 2.", 19 GND1 (power) "Ground connection.", 20 IS1 "Probe connection 1.", 21 EP (power) "Connect to GND1."

## DRV401AIRGWR
designator U?
Sensor Signal Conditioning for Closed-Loop Magnetic Current Sensor, -50 to 150 degC, 20-pin QFN (RGW20), Green (RoHS & no Sb/Br); Manufacturer: Texas Instruments; PartNumber: DRV401AIRGWR; Iq(Max)(mA): 6.8; Vs(Max)(V): 5.5; Vs(Min)(V): 4.5; DatasheetVersion: SBVS070B; PackageVersion: 4204100/C, 07/2011; PackageReference: RGW20-3150X3150TP; PackageDescription: 20-Pin Plastic Quad Flat No-Lead, 5 x 5 mm Body, 0.65 mm Pitch, 3.15 x 3.15 mm Exposed Pad; Supplier 1: Digi-Key; Supplier Part Number 1: DRV401AIRGWR-ND; Supplier 2: Mouser; Supplier Part Number 2: 595-DRV401AIRGWR; Eco-Plan: Green (RoHS & no Sb/Br); Thermal Shutdown: No; Mounting Technology: Surface Mount; Code_JEDEC: MO-220; ComponentLink1Description: Manufacturer URL; ComponentLink1URL: http://www.ti.com/; ComponentLink2Description: Datasheet; ComponentLink2URL: http://www.ti.com/general/docs/lit/getliterature.tsp?genericPartNumber=DRV401&fileType=pdf; ComponentLink3Description: Package Specification; ComponentLink3URL: http://www.ti.com/litv/pdf/mpqf122b
footprint TI-RGW20-3150X3150TP_V (QFN, 20-Leads, Body 5x5mm, Pitch 0.65mm, Thermal Pad 3.15x3.15mm)
pins: 1 ERROR (oc) "Error flag: open-drain output, see the Error Conditions section.", 2 DEMAG (in) "Control input, see the Demagnetization section.", 3 GAIN (in) "Control input for open-loop gain: low = normal, high = -8dB.", 4 REFOUT (out) "Output for internal 2.5V reference voltage.", 5 REFIN (in) "Input for zero reference to differential amplifier.", 6 VOUT (out) "Output for differential amplifier.", 7 IAIN2 (in) "Noninverting input of differential amplifier.", 8 IAIN1 (in) "Inverting input of differential amplifier.", 9 GND2 (power) "Ground connection. Connect to GND1.", 10 ICOMP2 (out) "Output 2 of compensation coil driver.", 11 ICOMP1 (out) "Output 1 of compensation coil driver.", 12 VDD2 (power) "Supply voltage. Connect to VDD1.", 13 CCDIAG (in) "Control input for wire-break detection: high = enable.", 14 OVER-RANGE (oc) "Open-drain output for over-range indication: low = over-range.", 15 VDD1 (power) "Supply voltage.", 16 IS2 "Probe connection 2.", 17 GND1 (power) "Ground connection.", 18 IS1 "Probe connection 1.", 19 ~{PWM} (out) "PWM output from probe circuit (inverted).", 20 PWM (out) "PWM output from probe circuit.", 21 EP (power) "Connect to GND1."

## DRV401AIRGWRG4
designator U?
Sensor Signal Conditioning for Closed-Loop Magnetic Current Sensor, -50 to 150 degC, 20-pin QFN (RGW20), Green (RoHS & no Sb/Br); Manufacturer: Texas Instruments; PartNumber: DRV401AIRGWRG4; Iq(Max)(mA): 6.8; Vs(Max)(V): 5.5; Vs(Min)(V): 4.5; DatasheetVersion: SBVS070B; PackageVersion: 4204100/C, 07/2011; PackageReference: RGW20-3150X3150TP; PackageDescription: 20-Pin Plastic Quad Flat No-Lead, 5 x 5 mm Body, 0.65 mm Pitch, 3.15 x 3.15 mm Exposed Pad; Supplier 1: Digi-Key; Supplier Part Number 1: DRV401AIRGWRG4-ND; Supplier 2: Mouser; Supplier Part Number 2: 595-DRV401AIRGWRG4; Eco-Plan: Green (RoHS & no Sb/Br); Thermal Shutdown: No; Mounting Technology: Surface Mount; Code_JEDEC: MO-220; ComponentLink1Description: Manufacturer URL; ComponentLink1URL: http://www.ti.com/; ComponentLink2Description: Datasheet; ComponentLink2URL: http://www.ti.com/general/docs/lit/getliterature.tsp?genericPartNumber=DRV401&fileType=pdf; ComponentLink3Description: Package Specification; ComponentLink3URL: http://www.ti.com/litv/pdf/mpqf122b
footprint TI-RGW20-3150X3150TP_V (QFN, 20-Leads, Body 5x5mm, Pitch 0.65mm, Thermal Pad 3.15x3.15mm)
pins: 1 ERROR (oc) "Error flag: open-drain output, see the Error Conditions section.", 2 DEMAG (in) "Control input, see the Demagnetization section.", 3 GAIN (in) "Control input for open-loop gain: low = normal, high = -8dB.", 4 REFOUT (out) "Output for internal 2.5V reference voltage.", 5 REFIN (in) "Input for zero reference to differential amplifier.", 6 VOUT (out) "Output for differential amplifier.", 7 IAIN2 (in) "Noninverting input of differential amplifier.", 8 IAIN1 (in) "Inverting input of differential amplifier.", 9 GND2 (power) "Ground connection. Connect to GND1.", 10 ICOMP2 (out) "Output 2 of compensation coil driver.", 11 ICOMP1 (out) "Output 1 of compensation coil driver.", 12 VDD2 (power) "Supply voltage. Connect to VDD1.", 13 CCDIAG (in) "Control input for wire-break detection: high = enable.", 14 OVER-RANGE (oc) "Open-drain output for over-range indication: low = over-range.", 15 VDD1 (power) "Supply voltage.", 16 IS2 "Probe connection 2.", 17 GND1 (power) "Ground connection.", 18 IS1 "Probe connection 1.", 19 ~{PWM} (out) "PWM output from probe circuit (inverted).", 20 PWM (out) "PWM output from probe circuit.", 21 EP (power) "Connect to GND1."

## DRV401AIRGWT
designator U?
Sensor Signal Conditioning for Closed-Loop Magnetic Current Sensor, -50 to 150 degC, 20-pin QFN (RGW20), Green (RoHS & no Sb/Br); Manufacturer: Texas Instruments; PartNumber: DRV401AIRGWT; Iq(Max)(mA): 6.8; Vs(Max)(V): 5.5; Vs(Min)(V): 4.5; DatasheetVersion: SBVS070B; PackageVersion: 4204100/C, 07/2011; PackageReference: RGW20-3150X3150TP; PackageDescription: 20-Pin Plastic Quad Flat No-Lead, 5 x 5 mm Body, 0.65 mm Pitch, 3.15 x 3.15 mm Exposed Pad; Supplier 1: Digi-Key; Supplier Part Number 1: 296-19872-2-ND; Supplier 2: Digi-Key; Supplier Part Number 2: 296-19872-1-ND; Supplier 3: Digi-Key; Supplier Part Number 3: 296-19872-6-ND; Supplier 4: Mouser; Supplier Part Number 4: 595-DRV401AIRGWT; Eco-Plan: Green (RoHS & no Sb/Br); Thermal Shutdown: No; Mounting Technology: Surface Mount; Code_JEDEC: MO-220; ComponentLink1Description: Manufacturer URL; ComponentLink1URL: http://www.ti.com/; ComponentLink2Description: Datasheet; ComponentLink2URL: http://www.ti.com/general/docs/lit/getliterature.tsp?genericPartNumber=DRV401&fileType=pdf; ComponentLink3Description: Package Specification; ComponentLink3URL: http://www.ti.com/litv/pdf/mpqf122b
footprint TI-RGW20-3150X3150TP_V (QFN, 20-Leads, Body 5x5mm, Pitch 0.65mm, Thermal Pad 3.15x3.15mm)
pins: 1 ERROR (oc) "Error flag: open-drain output, see the Error Conditions section.", 2 DEMAG (in) "Control input, see the Demagnetization section.", 3 GAIN (in) "Control input for open-loop gain: low = normal, high = -8dB.", 4 REFOUT (out) "Output for internal 2.5V reference voltage.", 5 REFIN (in) "Input for zero reference to differential amplifier.", 6 VOUT (out) "Output for differential amplifier.", 7 IAIN2 (in) "Noninverting input of differential amplifier.", 8 IAIN1 (in) "Inverting input of differential amplifier.", 9 GND2 (power) "Ground connection. Connect to GND1.", 10 ICOMP2 (out) "Output 2 of compensation coil driver.", 11 ICOMP1 (out) "Output 1 of compensation coil driver.", 12 VDD2 (power) "Supply voltage. Connect to VDD1.", 13 CCDIAG (in) "Control input for wire-break detection: high = enable.", 14 OVER-RANGE (oc) "Open-drain output for over-range indication: low = over-range.", 15 VDD1 (power) "Supply voltage.", 16 IS2 "Probe connection 2.", 17 GND1 (power) "Ground connection.", 18 IS1 "Probe connection 1.", 19 ~{PWM} (out) "PWM output from probe circuit (inverted).", 20 PWM (out) "PWM output from probe circuit.", 21 EP (power) "Connect to GND1."

## DRV401AIRGWTG4
designator U?
Sensor Signal Conditioning for Closed-Loop Magnetic Current Sensor, -50 to 150 degC, 20-pin QFN (RGW20), Green (RoHS & no Sb/Br); Manufacturer: Texas Instruments; PartNumber: DRV401AIRGWTG4; Iq(Max)(mA): 6.8; Vs(Max)(V): 5.5; Vs(Min)(V): 4.5; DatasheetVersion: SBVS070B; PackageVersion: 4204100/C, 07/2011; PackageReference: RGW20-3150X3150TP; PackageDescription: 20-Pin Plastic Quad Flat No-Lead, 5 x 5 mm Body, 0.65 mm Pitch, 3.15 x 3.15 mm Exposed Pad; Supplier 1: Digi-Key; Supplier Part Number 1: DRV401AIRGWTG4-ND; Supplier 2: Mouser; Supplier Part Number 2: 595-DRV401AIRGWTG4; Eco-Plan: Green (RoHS & no Sb/Br); Thermal Shutdown: No; Mounting Technology: Surface Mount; Code_JEDEC: MO-220; ComponentLink1Description: Manufacturer URL; ComponentLink1URL: http://www.ti.com/; ComponentLink2Description: Datasheet; ComponentLink2URL: http://www.ti.com/general/docs/lit/getliterature.tsp?genericPartNumber=DRV401&fileType=pdf; ComponentLink3Description: Package Specification; ComponentLink3URL: http://www.ti.com/litv/pdf/mpqf122b
footprint TI-RGW20-3150X3150TP_V (QFN, 20-Leads, Body 5x5mm, Pitch 0.65mm, Thermal Pad 3.15x3.15mm)
pins: 1 ERROR (oc) "Error flag: open-drain output, see the Error Conditions section.", 2 DEMAG (in) "Control input, see the Demagnetization section.", 3 GAIN (in) "Control input for open-loop gain: low = normal, high = -8dB.", 4 REFOUT (out) "Output for internal 2.5V reference voltage.", 5 REFIN (in) "Input for zero reference to differential amplifier.", 6 VOUT (out) "Output for differential amplifier.", 7 IAIN2 (in) "Noninverting input of differential amplifier.", 8 IAIN1 (in) "Inverting input of differential amplifier.", 9 GND2 (power) "Ground connection. Connect to GND1.", 10 ICOMP2 (out) "Output 2 of compensation coil driver.", 11 ICOMP1 (out) "Output 1 of compensation coil driver.", 12 VDD2 (power) "Supply voltage. Connect to VDD1.", 13 CCDIAG (in) "Control input for wire-break detection: high = enable.", 14 OVER-RANGE (oc) "Open-drain output for over-range indication: low = over-range.", 15 VDD1 (power) "Supply voltage.", 16 IS2 "Probe connection 2.", 17 GND1 (power) "Ground connection.", 18 IS1 "Probe connection 1.", 19 ~{PWM} (out) "PWM output from probe circuit (inverted).", 20 PWM (out) "PWM output from probe circuit.", 21 EP (power) "Connect to GND1."